# EAGLE library part FDS4935 (library FET p-ch)
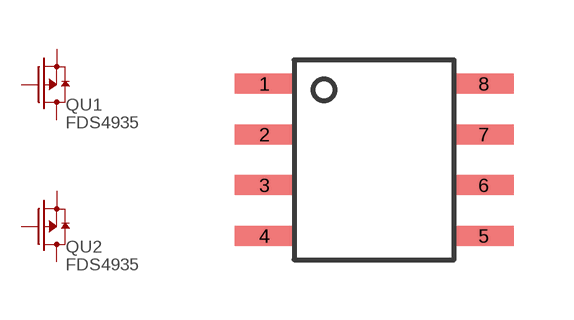
[diagram p0: symbol with the pads of SOIC(8PIN); footprint SOIC(8PIN)]

Designator prefix Q; gates U1=DUALDRAIN U2=DUALDRAIN

## FDS4935  [SOIC(8PIN)]
1  U1:S  pas
2  U1:G  pas
3  U2:S  pas
4  U2:G  pas
5  U2:D2  pas
6  U2:D1  pas
7  U1:D2  pas
8  U1:D1  pas

## Footprint SOIC(8PIN) (pad centres in mm)
4*5mm size , 0.05inch pitch , 8pin pacage
smd 1.5 x 0.5: 1 -2.74,1.905; 2 -2.74,0.635; 3 -2.74,-0.635; 4 -2.74,-1.905; 5 2.74,-1.905; 6 2.74,-0.635; 7 2.74,0.635; 8 2.74,1.905